# EAGLE library part OPA3355 (library IC)
Texas Instruments OPA3355 Triple 200MHz, CMOS Operational Amplifier with shutdown
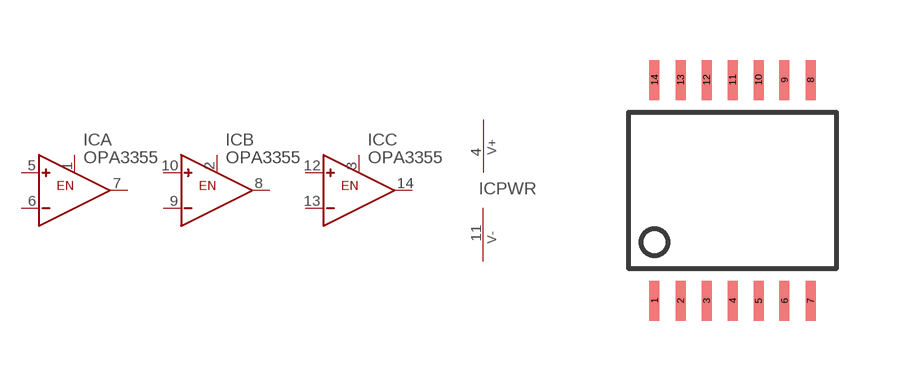
[diagram p136: symbol with the pads of TSSOP14; footprint TSSOP14]

Designator prefix IC; gates A=OPAMP-EN B=OPAMP-EN C=OPAMP-EN PWR=PWR_V+_V-

## OPA3355  [TSSOP14]
1  A:EN  in
2  B:EN  in
3  C:EN  in
4  PWR:V+  pwr
5  A:IN+  in
6  A:IN-  in
7  A:OUT  out
8  B:OUT  out
9  B:IN-  in
10  B:IN+  in
11  PWR:V-  pwr
12  C:IN+  in
13  C:IN-  in
14  C:OUT  out

## Footprint TSSOP14 (pad centres in mm)
smd 0.25 x 1: 1 -1.95,-2.763; 2 -1.3,-2.763; 3 -0.65,-2.763; 4 0,-2.763; 5 0.65,-2.763; 6 1.3,-2.763; 7 1.95,-2.763; 8 1.95,2.763; 9 1.3,2.763; 10 0.65,2.763; 11 0,2.763; 12 -0.65,2.763; 13 -1.3,2.763; 14 -1.95,2.763